# EAGLE library part 74HC165 (library PP_DigitalIC)
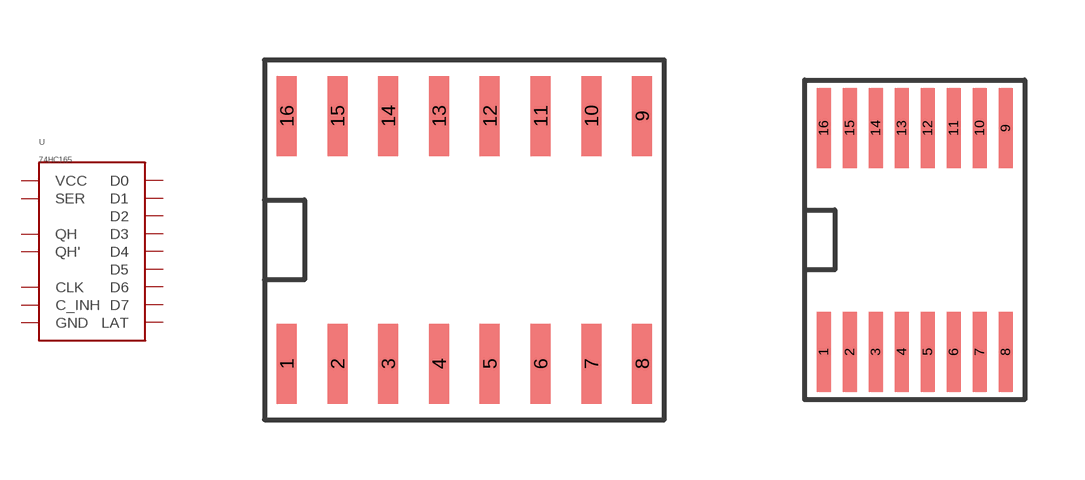
[diagram p9: symbol with the pads of SO-16; footprints SO-16, TTSOP-16]

Designator prefix U

## 74HC165SO-16  [SO-16]
1  LAT
2  CLK
3  D4
4  D5
5  D6
6  D7
7  QH'
8  GND
9  QH
10  SER
11  D0
12  D1
13  D2
14  D3
15  C_INH
16  VCC

## 74HC165TTSOP-16  [TTSOP-16]
Pads as for SO-16

## Footprint SO-16 (pad centres in mm)
smd 0.5 x 2: 1 -4.445,-3.1; 2 -3.175,-3.1; 3 -1.905,-3.1; 4 -0.635,-3.1; 5 0.635,-3.1; 6 1.905,-3.1; 7 3.175,-3.1; 8 4.445,-3.1; 9 4.445,3.1; 10 3.175,3.1; 11 1.905,3.1; 12 0.635,3.1; 13 -0.635,3.1; 14 -1.905,3.1; 15 -3.175,3.1; 16 -4.445,3.1

## Footprint TTSOP-16 (pad centres in mm)
smd 0.35 x 2: 1 -2.275,-2.8; 2 -1.625,-2.8; 3 -0.975,-2.8; 4 -0.325,-2.8; 5 0.325,-2.8; 6 0.975,-2.8; 7 1.625,-2.8; 8 2.275,-2.8; 9 2.275,2.8; 10 1.625,2.8; 11 0.975,2.8; 12 0.325,2.8; 13 -0.325,2.8; 14 -0.975,2.8; 15 -1.625,2.8; 16 -2.275,2.8